# EAGLE library part A153-1191.25M2 (library saw-filters-narrowband)
A153-1191.25M2 Параметр Ед. изм. Мин. значение Тип. значение Макс. значение Центральная частота МГц 1188.75 1191.25 1193.75 Минимальное вносимое затухание дБ - 0.9 1.2 Полоса среза по уровню -2 дБ МГц 58 60 - Полоса среза по уровню -12 дБ МГц - 81 - Неравномерность АЧХ дБ - 0.5 1 Групповое время задержки нс - - - Гарантированное затухание дБ - 20 - Температурный диапазон °C -55 22 +85 Материал подложки - - Ниобат лития 49 -
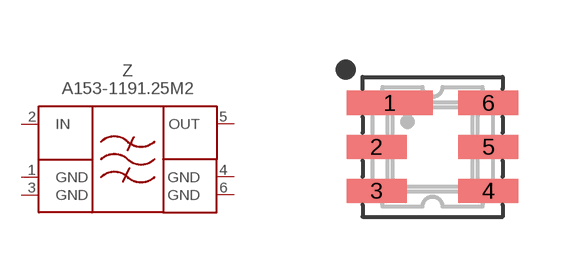
[diagram p66: symbol with the pads of DCC6; footprint DCC6]

Designator prefix Z

## A153-1191.25M2  [DCC6]
1  GND  pwr
2  IN  in
3  GND  pwr
4  GND  pwr
5  OUT  out
6  GND  pwr

## Footprint DCC6 (pad centres in mm)
smd 2.15 x 0.6: 1 -1.075,1.1
smd 1.5 x 0.6: 2 -1.4,0; 3 -1.4,-1.1; 4 1.4,-1.1; 5 1.4,0; 6 1.4,1.1